# Altium schematic symbol library Crystek.SchLib: 1 symbol
Pins are listed as number, name and electrical type; pins without a type are passive.

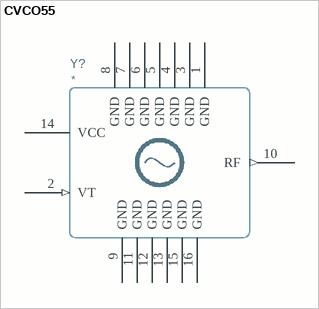
[diagram p0: symbol CVCO55]

## CVCO55
designator Y?
pins: 1 GND, 2 VT (in), 3 GND, 4 GND, 5 GND, 6 GND, 7 GND, 8 GND, 9 GND, 10 RF (out), 11 GND, 12 GND, 13 GND, 14 VCC, 15 GND, 16 GND